# Altium schematic symbol library Transistor.SchLib: 23 symbols
Pins are listed as number, name and electrical type; pins without a type are passive.

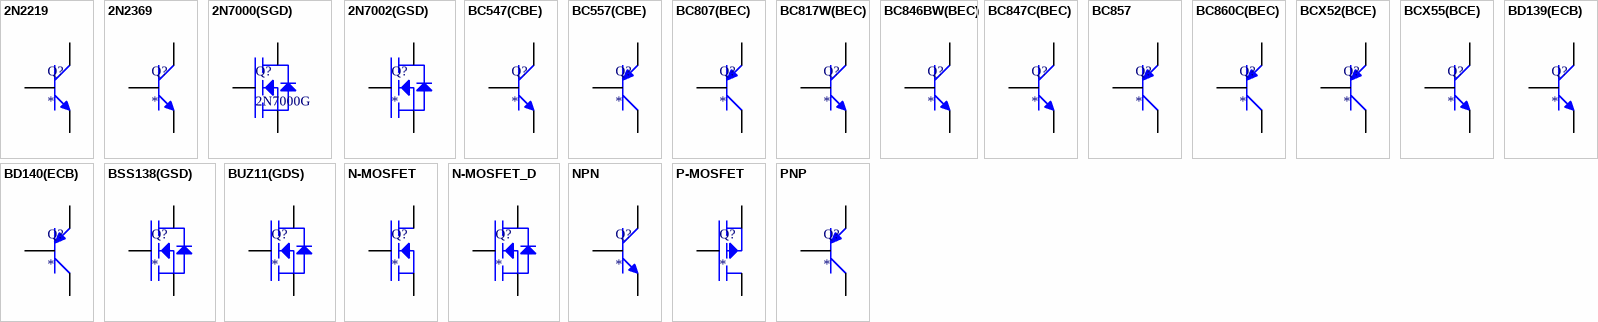
[diagram p0: symbols 2N2219 to PNP]

## 2N2219
designator Q?
NPN
footprint TO-39
pins: 1 C, 2 B, 3 E

## 2N2369
designator Q?
NPN
footprint TO–206AA
pins: 1 C, 2 B, 3 E

## 2N7000(SGD)
designator Q?, comment 2N7000G
N-MOSFET
footprint TO-92 (TO-92 BEND LEAD)
footprint TO-92-BL (TO-92 BEND LEAD)
pins: 1 S, 2 G, 3 D

## 2N7002(GSD)
designator Q?
N-MOSFET
footprint SOT23
pins: 1 G, 2 S, 3 D

## BC547(CBE)
designator Q?
NPN
footprint TO-92 (TO-92 BEND LEAD)
footprint TO-92-BL (TO-92 BEND LEAD)
pins: 1 C, 2 B, 3 E

## BC557(CBE)
designator Q?
PNP
footprint TO-92 (TO-92 BEND LEAD)
footprint TO-92-BL (TO-92 BEND LEAD)
pins: 1 C, 2 B, 3 E

## BC807(BEC)
designator Q?
PNP
footprint SOT23
pins: 1 B, 2 E, 3 C

## BC817W(BEC)
designator Q?
NPN
footprint SOT323
pins: 1 B, 2 E, 3 C

## BC846BW(BEC)
designator Q?
NPN
footprint SOT323
pins: 1 B, 2 E, 3 C

## BC847C(BEC)
designator Q?
NPN
footprint SOT23
pins: 1 B, 2 E, 3 C

## BC857
designator Q?
PNP
footprint SOT23
pins: 1 B, 2 E, 3 C

## BC860C(BEC)
designator Q?
PNP
footprint SOT23
pins: 1 B, 2 E, 3 C

## BCX52(BCE)
designator Q?
PNP
footprint SOT89
pins: 1 B, 2 C, 3 E

## BCX55(BCE)
designator Q?
NPN
footprint SOT89
pins: 1 B, 2 C, 3 E

## BD139(ECB)
designator Q?
NPN
footprint TO-126
pins: 1 E, 2 C, 3 B

## BD140(ECB)
designator Q?
PNP
footprint TO-126
pins: 1 E, 2 C, 3 B

## BSS138(GSD)
designator Q?
N-MOSFET
footprint SOT23
pins: 1 G, 2 S, 3 D

## BUZ11(GDS)
designator Q?
N-MOSFET
footprint TO-220
pins: 1 G, 2 D, 3 S

## N-MOSFET
designator Q?
pins: 1 D, 2 G, 3 S

## N-MOSFET_D
designator Q?
pins: 1 D, 2 G, 3 S

## NPN
designator Q?
pins: 1 C, 2 B, 3 E

## P-MOSFET
designator Q?
pins: 1 S, 2 G, 3 G

## PNP
designator Q?
pins: 1 E, 2 B, 3 C